# Altium footprint library FOC.PcbLib: 34 footprints (part 1 of 3)
Each footprint in its own frame and in the unit in brackets; x right, y up, seen from the top. Pads: shape width x height; smd on the part's side, far side on the other; paste and mask are expansions set on the pad; w line width, h text height; cw(c..) or ccw(c..) is an arc to the next point about the centre after c.
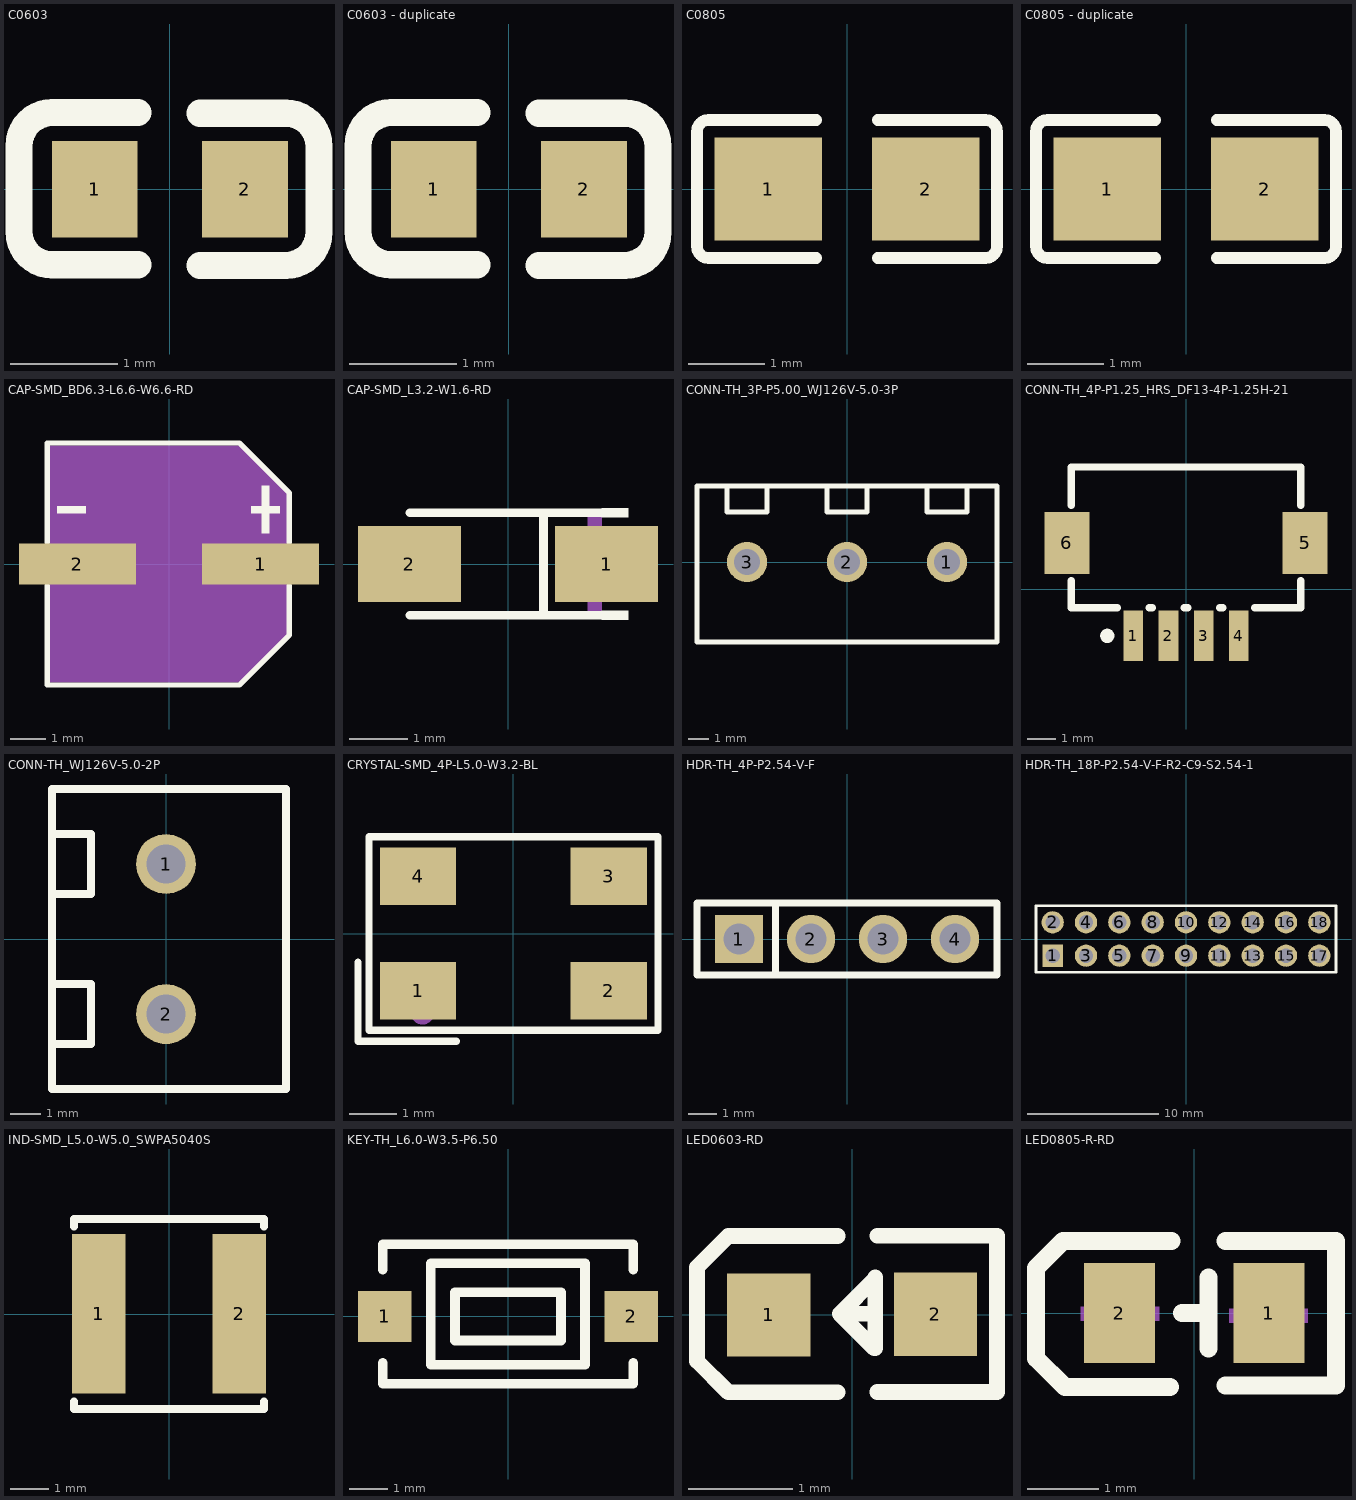
[diagram p0: the footprints below, top view; thin cyan lines are the x and y axes]

## C0603 [mm]
pads (2):
  rect 0.8x0.9 smd: 1(-0.7,0) 2(0.7,0)
Top Overlay:
  lines w0.254: -0.296,-0.704 -1.096,-0.704 cw(c-1.096,-0.394) -1.406,-0.394 -1.405,0.406 cw(c-1.096,0.406) -1.096,0.715 -0.296,0.715 ; 0.28,-0.71 1.08,-0.71 ccw(c1.08,-0.4) 1.39,-0.4 1.39,0.4 ccw(c1.08,0.4) 1.08,0.71 0.28,0.71

## C0603 - duplicate [mm]
pads (2):
  rect 0.8x0.9 smd: 1(-0.7,0) 2(0.7,0)
Top Overlay:
  lines w0.254: -0.296,-0.704 -1.096,-0.704 cw(c-1.096,-0.394) -1.406,-0.394 -1.405,0.406 cw(c-1.096,0.406) -1.096,0.715 -0.296,0.715 ; 0.28,-0.71 1.08,-0.71 ccw(c1.08,-0.4) 1.39,-0.4 1.39,0.4 ccw(c1.08,0.4) 1.08,0.71 0.28,0.71

## C0805 [mm]
pads (2):
  rect 1.41x1.35 smd: 1(-1.03,0) 2(1.03,0)
Top Overlay:
  lines w0.152: -0.401,-0.904 -1.811,-0.904 cw(c-1.811,-0.751) -1.964,-0.751 -1.964,0.751 cw(c-1.811,0.751) -1.811,0.904 -0.401,0.904 ; 0.401,-0.904 1.811,-0.904 ccw(c1.811,-0.751) 1.964,-0.751 1.964,0.751 ccw(c1.811,0.751) 1.811,0.904 0.401,0.904
Top Paste:
  region: -1.675,-0.62 -1.675,0.66 -1.625,0.71 -0.475,0.71 -0.425,0.66 -0.42,0.25 -0.87,0.25 -0.87,-0.2 -0.43,-0.2 -0.425,-0.62 -0.475,-0.67 -1.625,-0.67
  region: 0.475,-0.62 0.475,-0.2 0.92,-0.2 0.92,0.25 0.48,0.25 0.475,0.66 0.525,0.71 1.675,0.71 1.725,0.66 1.725,-0.62 1.675,-0.67 0.525,-0.67

## C0805 - duplicate [mm]
pads (2):
  rect 1.41x1.35 smd: 1(-1.03,0) 2(1.03,0)
Top Overlay:
  lines w0.152: -0.401,-0.904 -1.811,-0.904 cw(c-1.811,-0.751) -1.964,-0.751 -1.964,0.751 cw(c-1.811,0.751) -1.811,0.904 -0.401,0.904 ; 0.401,-0.904 1.811,-0.904 ccw(c1.811,-0.751) 1.964,-0.751 1.964,0.751 ccw(c1.811,0.751) 1.811,0.904 0.401,0.904
Top Paste:
  region: -1.675,-0.62 -1.675,0.66 -1.625,0.71 -0.475,0.71 -0.425,0.66 -0.42,0.25 -0.87,0.25 -0.87,-0.2 -0.43,-0.2 -0.425,-0.62 -0.475,-0.67 -1.625,-0.67
  region: 0.475,-0.62 0.475,-0.2 0.92,-0.2 0.92,0.25 0.48,0.25 0.475,0.66 0.525,0.71 1.675,0.71 1.725,0.66 1.725,-0.62 1.675,-0.67 0.525,-0.67

## CAP-SMD_BD6.3-L6.6-W6.6-RD [mm]
pads (2):
  rect 3.26x1.15 smd: 1(2.555,0) 2(-2.555,0)
Top Overlay:
  region: -3.117,1.419 -3.117,1.617 -2.325,1.617 -2.325,1.419
  region: 3.087,1.419 3.087,1.617 2.295,1.617 2.295,1.419
  region: 2.79,0.858 2.79,2.178 2.592,2.178 2.592,0.858
  lines w0.152: -3.391,-0.607 -3.391,-3.376 1.965,-3.376 3.361,-1.98 3.361,-0.607 ; -3.391,0.607 -3.391,3.376 1.965,3.376 3.361,1.98 3.361,0.607
Mechanical 4:
  region: -3.315,-3.3 -3.315,3.3 1.965,3.3 3.285,1.98 3.285,-1.98 1.965,-3.3
Mechanical 5:
  region: -3.615,-0.325 -3.615,0.325 -1.015,0.325 -1.015,-0.325
  region: 3.585,-0.325 3.585,0.325 0.985,0.325 0.985,-0.325
Mechanical 15:
  region: -3.117,-0.099 -3.117,0.099 -2.325,0.099 -2.325,-0.099
  region: 3.087,-0.099 3.087,0.099 2.295,0.099 2.295,-0.099
  region: 2.79,-0.66 2.79,0.66 2.592,0.66 2.592,-0.66

## CAP-SMD_L3.2-W1.6-RD [mm]
pads (2):
  rect 1.758x1.296 smd: 1(1.686,0) 2(-1.686,0)
Top Overlay:
  region: 1.6,-0.952 1.6,-0.8 2.057,-0.8 2.057,-0.952
  region: 1.6,0.952 1.6,0.8 2.057,0.8 2.057,0.952
  lines w0.152: -1.676,-0.876 1.676,-0.876 ; -1.676,0.876 1.676,0.876 ; 0.604,-0.876 0.604,0.876
Mechanical 15:
  region: 1.6,0.8 1.6,0.4 1.36,0.4 1.36,0.8
  region: 1.6,-0.8 1.6,-0.4 1.36,-0.4 1.36,-0.8
  region: 1.3,-0.4 1.3,0.4 1.18,0.4 1.18,-0.4
  region: 1.48,-0.06 1.48,0.06 1,0.06 1,-0.06
  region: -1.48,-0.06 -1.48,0.06 -1,0.06 -1,-0.06

## CONN-TH_3P-P5.00_WJ126V-5.0-3P [mm]
pads (3):
  round 2 hole 1.3: 1(5,0) 2(-0.001,0) 3(-5,0)
Top Overlay:
  lines w0.254: -6,3.8 -6,2.5 -4,2.5 -4,3.8 ; -1,3.8 -1,2.5 1,2.5 1,3.8 ; 4,3.8 4,2.5 6,2.5 6,3.8 ; -7.5,-4 -2.5,-4 7.5,-4 7.5,0 7.5,3.8 -2.5,3.8 -7.5,3.8 -7.5,0 -7.5,-4

## CONN-TH_4P-P1.25_HRS_DF13-4P-1.25H-21 [mm]
pads (6):
  rect 0.7x1.8 smd: 1(-1.875,-1.65) 2(-0.625,-1.65) 3(0.625,-1.65) 4(1.875,-1.65)
  rect 1.6x2.2 smd: 5(4.225,1.65) 6(-4.225,1.65)
Top Overlay:
  circle w0.254: c-2.794,-1.651 r0.127
  lines w0.254: -4.075,0.319 -4.075,-0.651 -2.434,-0.651 ; -4.075,2.981 -4.075,4.349 4.075,4.349 4.075,2.981 ; -1.316,-0.651 -1.184,-0.651 ; -0.066,-0.651 0.067,-0.651 ; 1.184,-0.651 1.316,-0.651 ; 2.434,-0.651 4.075,-0.651 4.075,0.319

## CONN-TH_WJ126V-5.0-2P [mm]
pads (2):
  round 2 hole 1.3: 1(0,2.501) 2(0,-2.501)
Top Overlay:
  lines w0.254: -3.8,-3.499 -2.5,-3.499 -2.5,-1.499 -3.8,-1.499 ; -3.8,1.501 -2.5,1.501 -2.5,3.501 -3.8,3.501 ; -3.8,-4.999 0,-4.999 4,-4.999 4,5.001 0,5.001 -3.8,5.001 -3.8,-4.999

## CRYSTAL-SMD_4P-L5.0-W3.2-BL [mm]
pads (4):
  rect 1.6x1.2 smd: 1(-2,-1.2) 2(2,-1.2) 3(2,1.2) 4(-2,1.2)
Top Overlay:
  lines w0.152: -3.257,-0.6 -3.257,-2.257 -1.2,-2.257 ; -3.029,-2.029 3.029,-2.029 3.029,2.029 -3.029,2.029 -3.029,-2.029
Mechanical 15:
  circle w0.254: c-1.905,-1.651 r0.127

## HDR-TH_4P-P2.54-V-F [mm]
pads (4):
  rect 1.7x1.7 hole 1.1: 1(-3.81,0)
  round 1.7 hole 1.1: 2(-1.27,0) 3(1.27,0) 4(3.81,0)
Top Overlay:
  lines w0.254: -2.516,-1.27 -2.516,1.27 ; -5.29,-1.27 -5.29,1.27 5.29,1.27 5.29,-1.27 -5.29,-1.27

## HDR-TH_18P-P2.54-V-F-R2-C9-S2.54-1 [mm]
pads (18):
  rect 1.575x1.7 hole 1.1: 1(-10.16,-1.27)
  round 1.7 hole 1.1: 2(-10.16,1.27) 3(-7.62,-1.27) 4(-7.62,1.27) 5(-5.08,-1.27) 6(-5.08,1.27) 7(-2.54,-1.27) 8(-2.54,1.27) 9(0,-1.27) 10(0,1.27) 11(2.54,-1.27) 12(2.54,1.27) 13(5.08,-1.27) 14(5.08,1.27) 15(7.62,-1.27) 16(7.62,1.27) 17(10.16,-1.27) 18(10.16,1.27)
Top Overlay:
  lines w0.203: -11.43,-2.54 11.43,-2.54 11.43,2.54 -11.43,2.54 -11.43,-2.54

## IND-SMD_L5.0-W5.0_SWPA5040S [mm]
pads (2):
  rect 1.4x4.2 smd: 1(-1.85,0) 2(1.85,0)
Top Overlay:
  lines w0.203: -2.5,-2.306 -2.5,-2.5 2.5,-2.5 2.5,-2.306 ; -2.5,2.306 -2.5,2.5 2.5,2.5 2.5,2.306

## KEY-TH_L6.0-W3.5-P6.50 [mm]
pads (2):
  rect 1.41x1.35 smd: 1(-3.25,0) 2(3.25,0)
Top Overlay:
  lines w0.254: -3.302,-1.23 -3.302,-1.778 3.302,-1.778 3.302,-1.23 ; -3.302,1.23 -3.302,1.905 0.635,1.905 3.302,1.905 3.302,1.23 ; -2.032,-1.27 -2.032,1.397 2.032,1.397 2.032,-1.27 -2.032,-1.27 ; -1.397,-0.635 -1.397,0.635 1.397,0.635 1.397,-0.635 -1.397,-0.635

## LED0603-RD [mm]
pads (2):
  rect 0.8x0.8 smd: 1(-0.799,-0.003) 2(0.799,0.004)
Top Overlay:
  lines w0.15: -0.14,-0.746 -1.19,-0.746 -1.49,-0.446 -1.49,-0.346 -1.49,0.354 -1.49,0.454 -1.19,0.754 -0.14,0.754 ; 0.22,0.007 -0.12,0.007 ; 0.24,-0.744 1.39,-0.744 ; 0.24,0.757 1.39,0.757 1.39,-0.723 ; -0.12,0.007 0.21,-0.324 0.22,-0.324 0.22,0.357 0.22,0.347 -0.12,0.007
Mechanical 15:
  region: -1.07,0.062 -0.53,0.062 -0.53,-0.068 -1.07,-0.068
  region: 0.735,-0.267 0.735,0.273 0.865,0.273 0.865,-0.267
  region: 0.529,0.068 1.069,0.068 1.069,-0.062 0.529,-0.062

## LED0805-R-RD [mm]
pads (2):
  rect 1x1.4 smd: 1(1.05,0) 2(-1.05,0)
Top Overlay:
  lines w0.254: -0.344,-1.043 -1.817,-1.043 -2.224,-0.636 -2.224,0.634 -1.843,1.015 -0.319,1.015 ; -0.169,0 0.1,0 ; 0.2,-0.5 0.2,0.5 ; 0.443,-1.017 1.993,-1.017 1.993,1.015 0.443,1.015
Mechanical 15:
  region: -0.494,-0.109 -1.594,-0.109 -1.594,0.091 -0.494,0.091
  region: 0.494,0.06 1.594,0.06 1.594,-0.14 0.494,-0.14
  region: 0.941,-0.556 0.941,0.544 1.141,0.544 1.141,-0.556